# Altium schematic symbol library 0.1uF 50V cap cer TH.SchLib: 1 symbol
Pins are listed as number, name and electrical type; pins without a type are passive.

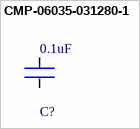
[diagram p0: symbol CMP-06035-031280-1]

## CMP-06035-031280-1
designator C?, comment 0.1uF
Cap Ceramic 100nF 50V X7R ±10% Radial 5mm +125°C Automotive Bulk; Lead Diameter: 0.5mm; Lead/Base Style: Formed Leads; Min Operating Temperature: -55°C; Lead Free: Lead Free; Width: 0.098inch; Height - Seated (Max): 0.138inch; Voltage Rating: 50V; Voltage Rating (DC): 50V; Dielectric: X7R; Package Quantity: 2000; Case/Package: Radial; Capacitance: 100nF; Mount: Through Hole; Ratings: AEC-Q200; Tolerance: 10%; Max Operating Temperature: 125°C; Resistor Type: Ceramic; Height: 3.5mm; Length: 0.142inch; Termination: Radial; Packaging: Tape and Reel; Lead Pitch: 0.197inch
footprint FP-RCE0K1-MFG
pins: 1, 2